# Altium schematic symbol library NPN_ON_MMBT3904LT3G.SchLib: 1 symbol
Pins are listed as number, name and electrical type; pins without a type are passive.

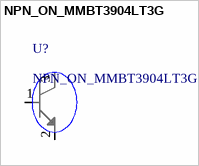
[diagram p0: symbol NPN_ON_MMBT3904LT3G]

## NPN_ON_MMBT3904LT3G
designator U?
pins: 1, 2, 3